# Altium schematic symbol library SCH - SWITCH - SPDT 3PIN.SCHLIB: 1 symbol
Pins are listed as number, name and electrical type; pins without a type are passive.

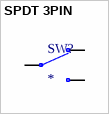
[diagram p0: symbol SPDT 3PIN]

## SPDT 3PIN
designator SW?
pins: 1 NO, 2 C, 3 NC